# EAGLE library part STM32L031G6U6 (library leaf)
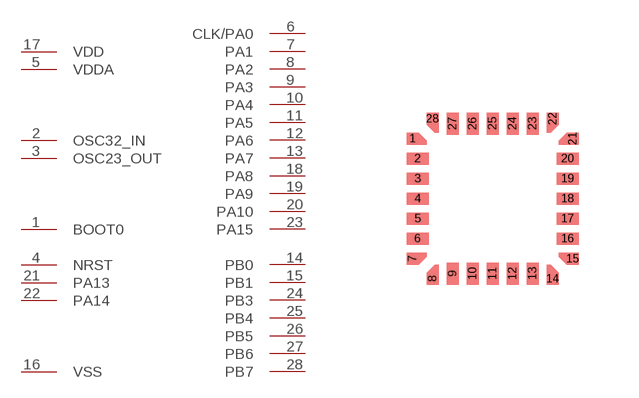
[diagram p10: symbol with the pads of STM32_QFN_28_4X4; footprint STM32_QFN_28_4X4]

Designator prefix U

## STM32L031G6U6  [STM32_QFN_28_4X4]
1  BOOT0
2  OSC32_IN
3  OSC23_OUT
4  NRST
5  VDDA
6  CLK/PA0
7  PA1
8  PA2
9  PA3
10  PA4
11  PA5
12  PA6
13  PA7
14  PB0
15  PB1
16  VSS
17  VDD
18  PA8
19  PA9
20  PA10
21  PA13
22  PA14
23  PA15
24  PB3
25  PB4
26  PB5
27  PB6
28  PB7

## Footprint STM32_QFN_28_4X4 (pad centres in mm)
smd 0.3 x 0.3: 1 -2,1.5; 7 -2,-1.5; 8 -1.5,-2; 14 1.5,-2; 15 2,-1.5; 21 2,1.5; 22 1.5,2; 28 -1.5,2
smd 0.55 x 0.3: 2 -1.875,1; 3 -1.875,0.5; 4 -1.875,0; 5 -1.875,-0.5; 6 -1.875,-1; 16 1.875,-1; 17 1.875,-0.5; 18 1.875,0; 19 1.875,0.5; 20 1.875,1
smd 0.3 x 0.55: 9 -1,-1.875; 10 -0.5,-1.875; 11 0,-1.875; 12 0.5,-1.875; 13 1,-1.875; 23 1,1.875; 24 0.5,1.875; 25 0,1.875; 26 -0.5,1.875; 27 -1,1.875